# Altium integrated library National Semiconductor Switcher.IntLib: 2226 symbols (part 30 of 59)
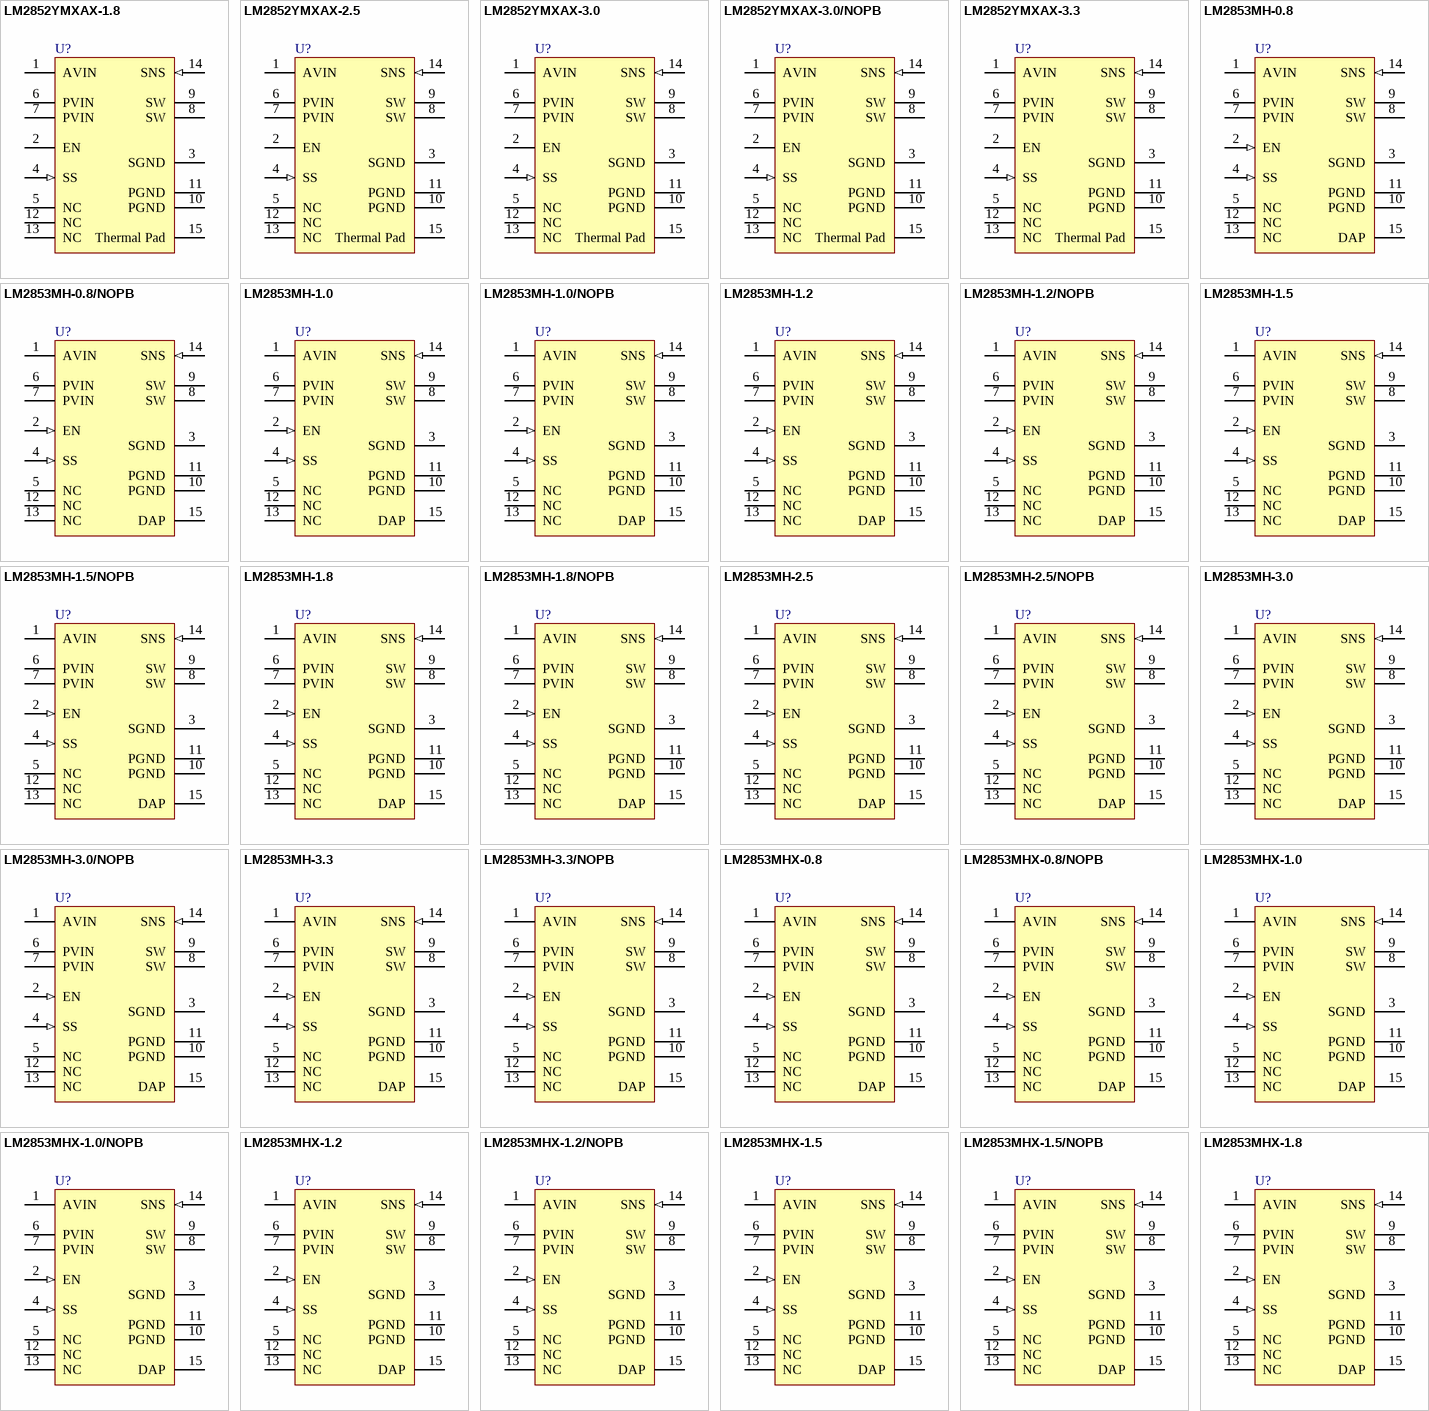
[diagram p98: symbols LM2852YMXAX-1.8 to LM2853MHX-1.8]

## LM2853MHX-0.8/NOPB
designator U?
3A 550 kHz Synchronous SIMPLE SWITCHER® Buck Regulator, 14-pin TSSOP-EP, Pb-Free; PartNumber: LM2853MHX-0.8/NOPB; Manufacturer: National Semiconductor; PackageTopMarking: NSUZXYTT*LM2853*-0.8; PowerWise: Y; DatasheetVersion: Oct-2006; PackageVersion: revA, Feb-2003; PackageReference: MXA14A; PackageDescription: Molded TSSOP, JEDEC, Exposed Pad, 5.0 x 4.4 x 0.9mm Body, 14 Lead, 0.65mm Pitch; RoHS: Y; PinCount: 14; CompType: Switcher; High-Reliability: Y; Code_JEDEC: MO-153-ABT-1; ComponentLink1Description: Manufacturer URL; ComponentLink1URL: http://www.national.com/; ComponentLink2Description: LM2853 Datasheet; ComponentLink2URL: http://www.national.com/ds/LM/LM2853.pdf; ComponentLink3Description: LM2853 Web Page; ComponentLink3URL: http://www.national.com/pf/LM/LM2853.html; ComponentLink4Description: MXA14A Package Page; ComponentLink4URL: http://www.national.com/packaging/folders/mxa14a.html
footprint MXA14A_N (TSOP, 14-Leads, Body 5x4.4mm, Pitch 0.65mm, Thermal Pad, IPC Medium Density)
footprint MXA14A_L (TSOP, 14-Leads, Body 5x4.4mm, Pitch 0.65mm, Thermal Pad, IPC High Density)
footprint MXA14A_M (TSOP, 14-Leads, Body 5x4.4mm, Pitch 0.65mm, Thermal Pad, IPC Low Density)
pins: 1 AVIN (power), 2 EN (in), 3 SGND (power), 4 SS (in), 5 NC, 6 PVIN (power), 7 PVIN (power), 8 SW (power), 9 SW (power), 10 PGND (power), 11 PGND (power), 12 NC, 13 NC, 14 SNS (in), 15 DAP (power)

## LM2853MHX-1.0
designator U?
3A 550 kHz Synchronous SIMPLE SWITCHER® Buck Regulator, 14-pin TSSOP-EP; PartNumber: LM2853MHX-1.0; Manufacturer: National Semiconductor; PackageTopMarking: NSUZXYTT*LM2853*-1.0; PowerWise: Y; DatasheetVersion: Oct-2006; PackageVersion: revA, Feb-2003; PackageReference: MXA14A; PackageDescription: Molded TSSOP, JEDEC, Exposed Pad, 5.0 x 4.4 x 0.9mm Body, 14 Lead, 0.65mm Pitch; RoHS: N; PinCount: 14; CompType: Switcher; High-Reliability: Y; Code_JEDEC: MO-153-ABT-1; ComponentLink1Description: Manufacturer URL; ComponentLink1URL: http://www.national.com/; ComponentLink2Description: LM2853 Datasheet; ComponentLink2URL: http://www.national.com/ds/LM/LM2853.pdf; ComponentLink3Description: LM2853 Web Page; ComponentLink3URL: http://www.national.com/pf/LM/LM2853.html; ComponentLink4Description: MXA14A Package Page; ComponentLink4URL: http://www.national.com/packaging/folders/mxa14a.html
footprint MXA14A_N (TSOP, 14-Leads, Body 5x4.4mm, Pitch 0.65mm, Thermal Pad, IPC Medium Density)
footprint MXA14A_L (TSOP, 14-Leads, Body 5x4.4mm, Pitch 0.65mm, Thermal Pad, IPC High Density)
footprint MXA14A_M (TSOP, 14-Leads, Body 5x4.4mm, Pitch 0.65mm, Thermal Pad, IPC Low Density)
pins: 1 AVIN (power), 2 EN (in), 3 SGND (power), 4 SS (in), 5 NC, 6 PVIN (power), 7 PVIN (power), 8 SW (power), 9 SW (power), 10 PGND (power), 11 PGND (power), 12 NC, 13 NC, 14 SNS (in), 15 DAP (power)

## LM2853MHX-1.0/NOPB
designator U?
3A 550 kHz Synchronous SIMPLE SWITCHER® Buck Regulator, 14-pin TSSOP-EP, Pb-Free; PartNumber: LM2853MHX-1.0/NOPB; Manufacturer: National Semiconductor; PackageTopMarking: NSUZXYTT*LM2853*-1.0; PowerWise: Y; DatasheetVersion: Oct-2006; PackageVersion: revA, Feb-2003; PackageReference: MXA14A; PackageDescription: Molded TSSOP, JEDEC, Exposed Pad, 5.0 x 4.4 x 0.9mm Body, 14 Lead, 0.65mm Pitch; RoHS: Y; PinCount: 14; CompType: Switcher; High-Reliability: Y; Code_JEDEC: MO-153-ABT-1; ComponentLink1Description: Manufacturer URL; ComponentLink1URL: http://www.national.com/; ComponentLink2Description: LM2853 Datasheet; ComponentLink2URL: http://www.national.com/ds/LM/LM2853.pdf; ComponentLink3Description: LM2853 Web Page; ComponentLink3URL: http://www.national.com/pf/LM/LM2853.html; ComponentLink4Description: MXA14A Package Page; ComponentLink4URL: http://www.national.com/packaging/folders/mxa14a.html
footprint MXA14A_N (TSOP, 14-Leads, Body 5x4.4mm, Pitch 0.65mm, Thermal Pad, IPC Medium Density)
footprint MXA14A_L (TSOP, 14-Leads, Body 5x4.4mm, Pitch 0.65mm, Thermal Pad, IPC High Density)
footprint MXA14A_M (TSOP, 14-Leads, Body 5x4.4mm, Pitch 0.65mm, Thermal Pad, IPC Low Density)
pins: 1 AVIN (power), 2 EN (in), 3 SGND (power), 4 SS (in), 5 NC, 6 PVIN (power), 7 PVIN (power), 8 SW (power), 9 SW (power), 10 PGND (power), 11 PGND (power), 12 NC, 13 NC, 14 SNS (in), 15 DAP (power)

## LM2853MHX-1.2
designator U?
3A 550 kHz Synchronous SIMPLE SWITCHER® Buck Regulator, 14-pin TSSOP-EP; PartNumber: LM2853MHX-1.2; Manufacturer: National Semiconductor; PackageTopMarking: NSUZXYTT*LM2853*-1.2; PowerWise: Y; DatasheetVersion: Oct-2006; PackageVersion: revA, Feb-2003; PackageReference: MXA14A; PackageDescription: Molded TSSOP, JEDEC, Exposed Pad, 5.0 x 4.4 x 0.9mm Body, 14 Lead, 0.65mm Pitch; RoHS: N; PinCount: 14; CompType: Switcher; High-Reliability: Y; Code_JEDEC: MO-153-ABT-1; ComponentLink1Description: Manufacturer URL; ComponentLink1URL: http://www.national.com/; ComponentLink2Description: LM2853 Datasheet; ComponentLink2URL: http://www.national.com/ds/LM/LM2853.pdf; ComponentLink3Description: LM2853 Web Page; ComponentLink3URL: http://www.national.com/pf/LM/LM2853.html; ComponentLink4Description: MXA14A Package Page; ComponentLink4URL: http://www.national.com/packaging/folders/mxa14a.html
footprint MXA14A_N (TSOP, 14-Leads, Body 5x4.4mm, Pitch 0.65mm, Thermal Pad, IPC Medium Density)
footprint MXA14A_L (TSOP, 14-Leads, Body 5x4.4mm, Pitch 0.65mm, Thermal Pad, IPC High Density)
footprint MXA14A_M (TSOP, 14-Leads, Body 5x4.4mm, Pitch 0.65mm, Thermal Pad, IPC Low Density)
pins: 1 AVIN (power), 2 EN (in), 3 SGND (power), 4 SS (in), 5 NC, 6 PVIN (power), 7 PVIN (power), 8 SW (power), 9 SW (power), 10 PGND (power), 11 PGND (power), 12 NC, 13 NC, 14 SNS (in), 15 DAP (power)

## LM2853MHX-1.2/NOPB
designator U?
3A 550 kHz Synchronous SIMPLE SWITCHER® Buck Regulator, 14-pin TSSOP-EP, Pb-Free; PartNumber: LM2853MHX-1.2/NOPB; Manufacturer: National Semiconductor; PackageTopMarking: NSUZXYTT*LM2853*-1.2; PowerWise: Y; DatasheetVersion: Oct-2006; PackageVersion: revA, Feb-2003; PackageReference: MXA14A; PackageDescription: Molded TSSOP, JEDEC, Exposed Pad, 5.0 x 4.4 x 0.9mm Body, 14 Lead, 0.65mm Pitch; RoHS: Y; PinCount: 14; CompType: Switcher; High-Reliability: Y; Code_JEDEC: MO-153-ABT-1; ComponentLink1Description: Manufacturer URL; ComponentLink1URL: http://www.national.com/; ComponentLink2Description: LM2853 Datasheet; ComponentLink2URL: http://www.national.com/ds/LM/LM2853.pdf; ComponentLink3Description: LM2853 Web Page; ComponentLink3URL: http://www.national.com/pf/LM/LM2853.html; ComponentLink4Description: MXA14A Package Page; ComponentLink4URL: http://www.national.com/packaging/folders/mxa14a.html
footprint MXA14A_N (TSOP, 14-Leads, Body 5x4.4mm, Pitch 0.65mm, Thermal Pad, IPC Medium Density)
footprint MXA14A_L (TSOP, 14-Leads, Body 5x4.4mm, Pitch 0.65mm, Thermal Pad, IPC High Density)
footprint MXA14A_M (TSOP, 14-Leads, Body 5x4.4mm, Pitch 0.65mm, Thermal Pad, IPC Low Density)
pins: 1 AVIN (power), 2 EN (in), 3 SGND (power), 4 SS (in), 5 NC, 6 PVIN (power), 7 PVIN (power), 8 SW (power), 9 SW (power), 10 PGND (power), 11 PGND (power), 12 NC, 13 NC, 14 SNS (in), 15 DAP (power)

## LM2853MHX-1.5
designator U?
3A 550 kHz Synchronous SIMPLE SWITCHER® Buck Regulator, 14-pin TSSOP-EP; PartNumber: LM2853MHX-1.5; Manufacturer: National Semiconductor; PackageTopMarking: NSUZXYTT*LM2853*-1.5; PowerWise: Y; DatasheetVersion: Oct-2006; PackageVersion: revA, Feb-2003; PackageReference: MXA14A; PackageDescription: Molded TSSOP, JEDEC, Exposed Pad, 5.0 x 4.4 x 0.9mm Body, 14 Lead, 0.65mm Pitch; RoHS: N; PinCount: 14; CompType: Switcher; High-Reliability: Y; Code_JEDEC: MO-153-ABT-1; ComponentLink1Description: Manufacturer URL; ComponentLink1URL: http://www.national.com/; ComponentLink2Description: LM2853 Datasheet; ComponentLink2URL: http://www.national.com/ds/LM/LM2853.pdf; ComponentLink3Description: LM2853 Web Page; ComponentLink3URL: http://www.national.com/pf/LM/LM2853.html; ComponentLink4Description: MXA14A Package Page; ComponentLink4URL: http://www.national.com/packaging/folders/mxa14a.html
footprint MXA14A_N (TSOP, 14-Leads, Body 5x4.4mm, Pitch 0.65mm, Thermal Pad, IPC Medium Density)
footprint MXA14A_L (TSOP, 14-Leads, Body 5x4.4mm, Pitch 0.65mm, Thermal Pad, IPC High Density)
footprint MXA14A_M (TSOP, 14-Leads, Body 5x4.4mm, Pitch 0.65mm, Thermal Pad, IPC Low Density)
pins: 1 AVIN (power), 2 EN (in), 3 SGND (power), 4 SS (in), 5 NC, 6 PVIN (power), 7 PVIN (power), 8 SW (power), 9 SW (power), 10 PGND (power), 11 PGND (power), 12 NC, 13 NC, 14 SNS (in), 15 DAP (power)

## LM2853MHX-1.5/NOPB
designator U?
3A 550 kHz Synchronous SIMPLE SWITCHER® Buck Regulator, 14-pin TSSOP-EP, Pb-Free; PartNumber: LM2853MHX-1.5/NOPB; Manufacturer: National Semiconductor; PackageTopMarking: NSUZXYTT*LM2853*-1.5; PowerWise: Y; DatasheetVersion: Oct-2006; PackageVersion: revA, Feb-2003; PackageReference: MXA14A; PackageDescription: Molded TSSOP, JEDEC, Exposed Pad, 5.0 x 4.4 x 0.9mm Body, 14 Lead, 0.65mm Pitch; RoHS: Y; PinCount: 14; CompType: Switcher; High-Reliability: Y; Code_JEDEC: MO-153-ABT-1; ComponentLink1Description: Manufacturer URL; ComponentLink1URL: http://www.national.com/; ComponentLink2Description: LM2853 Datasheet; ComponentLink2URL: http://www.national.com/ds/LM/LM2853.pdf; ComponentLink3Description: LM2853 Web Page; ComponentLink3URL: http://www.national.com/pf/LM/LM2853.html; ComponentLink4Description: MXA14A Package Page; ComponentLink4URL: http://www.national.com/packaging/folders/mxa14a.html
footprint MXA14A_N (TSOP, 14-Leads, Body 5x4.4mm, Pitch 0.65mm, Thermal Pad, IPC Medium Density)
footprint MXA14A_L (TSOP, 14-Leads, Body 5x4.4mm, Pitch 0.65mm, Thermal Pad, IPC High Density)
footprint MXA14A_M (TSOP, 14-Leads, Body 5x4.4mm, Pitch 0.65mm, Thermal Pad, IPC Low Density)
pins: 1 AVIN (power), 2 EN (in), 3 SGND (power), 4 SS (in), 5 NC, 6 PVIN (power), 7 PVIN (power), 8 SW (power), 9 SW (power), 10 PGND (power), 11 PGND (power), 12 NC, 13 NC, 14 SNS (in), 15 DAP (power)

## LM2853MHX-1.8
designator U?
3A 550 kHz Synchronous SIMPLE SWITCHER® Buck Regulator, 14-pin TSSOP-EP; PartNumber: LM2853MHX-1.8; Manufacturer: National Semiconductor; PackageTopMarking: NSUZXYTT*LM2853*-1.8; PowerWise: Y; DatasheetVersion: Oct-2006; PackageVersion: revA, Feb-2003; PackageReference: MXA14A; PackageDescription: Molded TSSOP, JEDEC, Exposed Pad, 5.0 x 4.4 x 0.9mm Body, 14 Lead, 0.65mm Pitch; RoHS: N; PinCount: 14; CompType: Switcher; High-Reliability: Y; Code_JEDEC: MO-153-ABT-1; ComponentLink1Description: Manufacturer URL; ComponentLink1URL: http://www.national.com/; ComponentLink2Description: LM2853 Datasheet; ComponentLink2URL: http://www.national.com/ds/LM/LM2853.pdf; ComponentLink3Description: LM2853 Web Page; ComponentLink3URL: http://www.national.com/pf/LM/LM2853.html; ComponentLink4Description: MXA14A Package Page; ComponentLink4URL: http://www.national.com/packaging/folders/mxa14a.html
footprint MXA14A_N (TSOP, 14-Leads, Body 5x4.4mm, Pitch 0.65mm, Thermal Pad, IPC Medium Density)
footprint MXA14A_L (TSOP, 14-Leads, Body 5x4.4mm, Pitch 0.65mm, Thermal Pad, IPC High Density)
footprint MXA14A_M (TSOP, 14-Leads, Body 5x4.4mm, Pitch 0.65mm, Thermal Pad, IPC Low Density)
pins: 1 AVIN (power), 2 EN (in), 3 SGND (power), 4 SS (in), 5 NC, 6 PVIN (power), 7 PVIN (power), 8 SW (power), 9 SW (power), 10 PGND (power), 11 PGND (power), 12 NC, 13 NC, 14 SNS (in), 15 DAP (power)

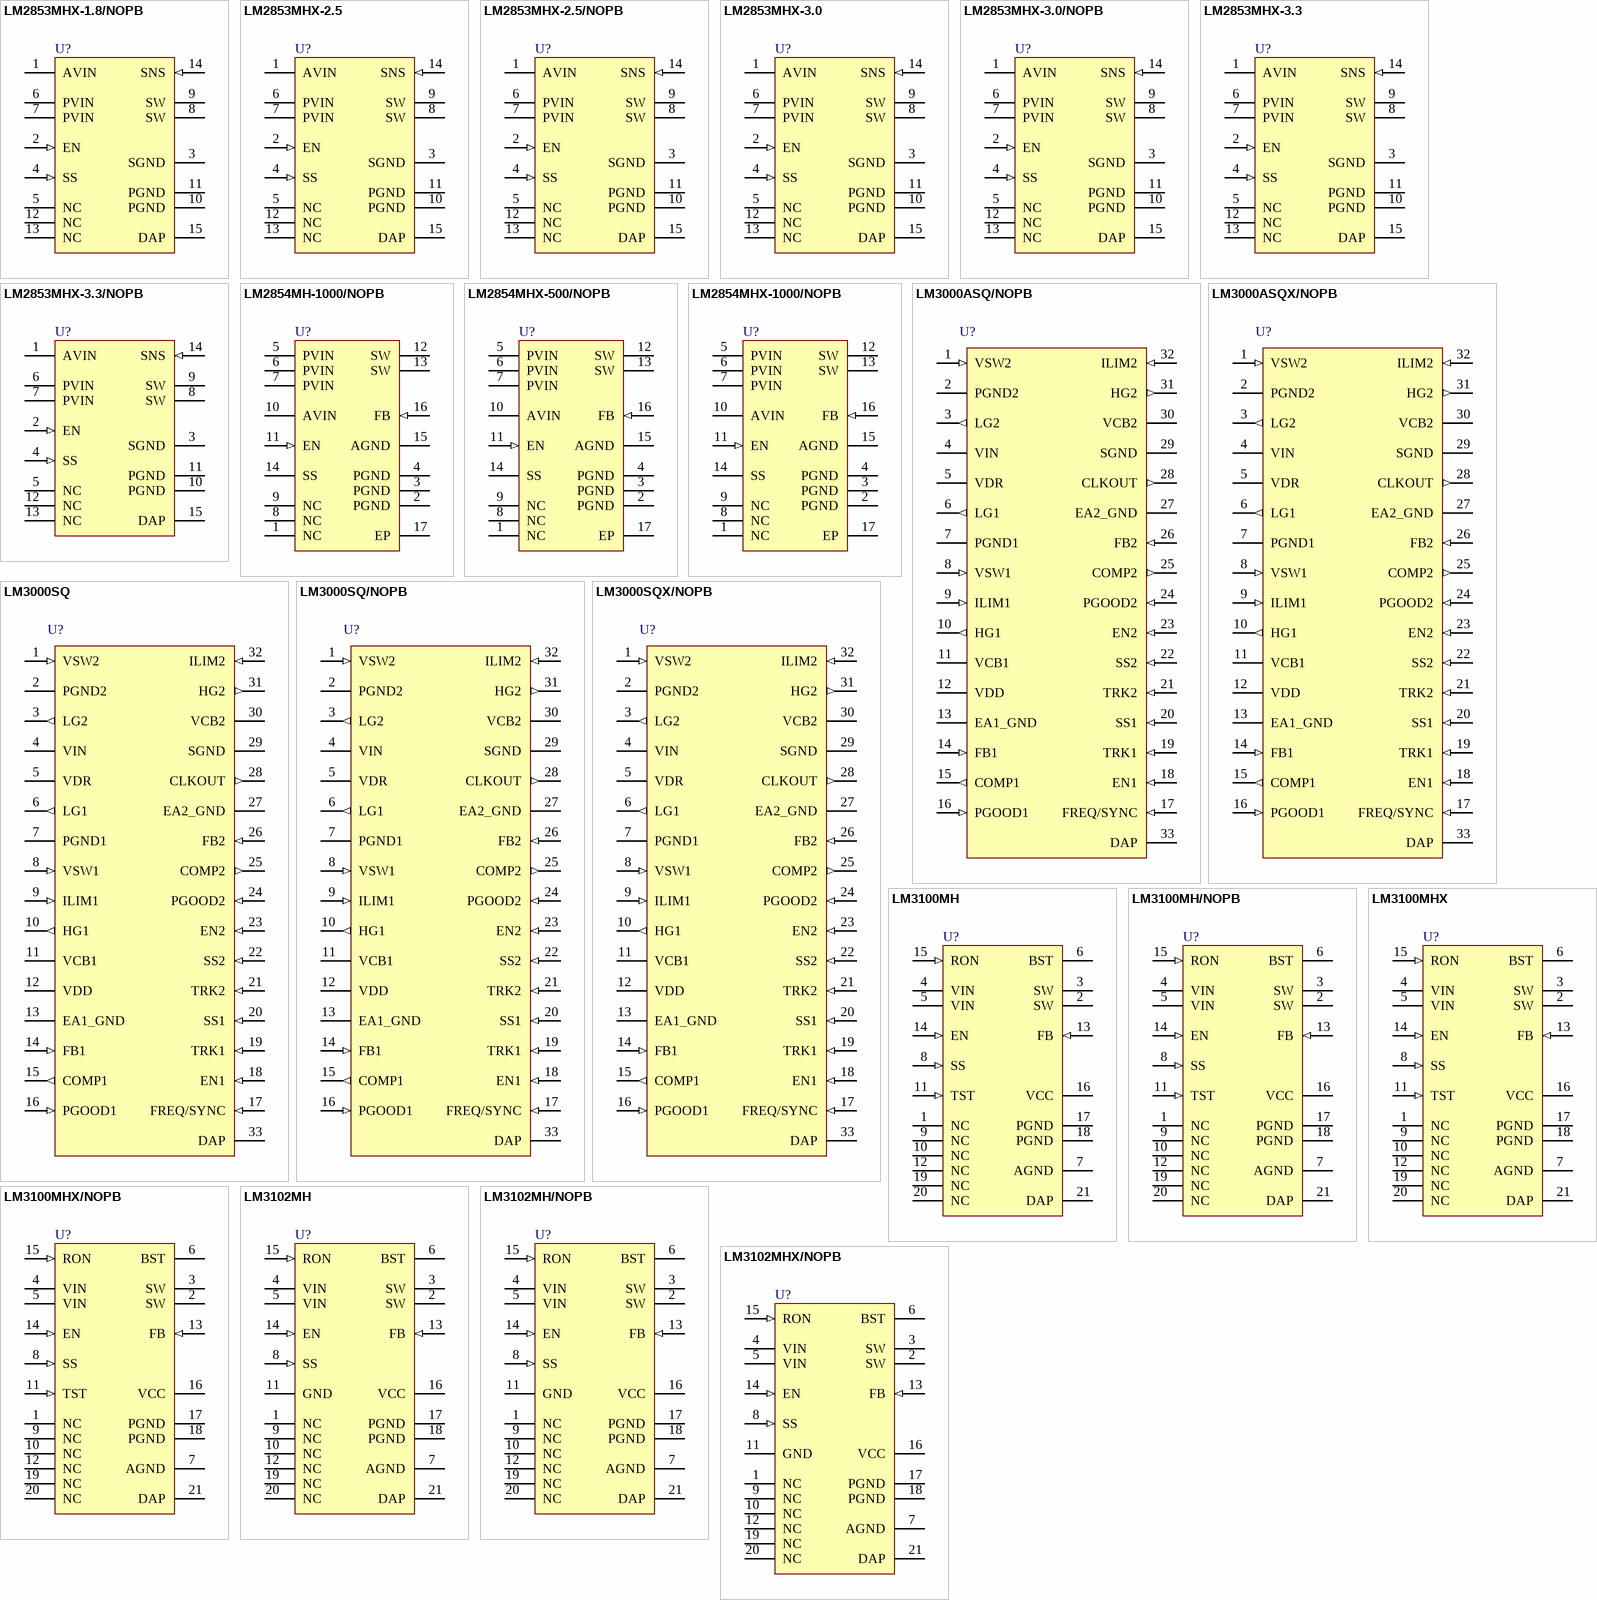
[diagram p32: symbols LM2853MHX-1.8/NOPB to LM3102MHX/NOPB]

## LM2853MHX-1.8/NOPB
designator U?
3A 550 kHz Synchronous SIMPLE SWITCHER® Buck Regulator, 14-pin TSSOP-EP, Pb-Free; PartNumber: LM2853MHX-1.8/NOPB; Manufacturer: National Semiconductor; PackageTopMarking: NSUZXYTT*LM2853*-1.8; PowerWise: Y; DatasheetVersion: Oct-2006; PackageVersion: revA, Feb-2003; PackageReference: MXA14A; PackageDescription: Molded TSSOP, JEDEC, Exposed Pad, 5.0 x 4.4 x 0.9mm Body, 14 Lead, 0.65mm Pitch; RoHS: Y; PinCount: 14; CompType: Switcher; High-Reliability: Y; Code_JEDEC: MO-153-ABT-1; ComponentLink1Description: Manufacturer URL; ComponentLink1URL: http://www.national.com/; ComponentLink2Description: LM2853 Datasheet; ComponentLink2URL: http://www.national.com/ds/LM/LM2853.pdf; ComponentLink3Description: LM2853 Web Page; ComponentLink3URL: http://www.national.com/pf/LM/LM2853.html; ComponentLink4Description: MXA14A Package Page; ComponentLink4URL: http://www.national.com/packaging/folders/mxa14a.html
footprint MXA14A_N (TSOP, 14-Leads, Body 5x4.4mm, Pitch 0.65mm, Thermal Pad, IPC Medium Density)
footprint MXA14A_L (TSOP, 14-Leads, Body 5x4.4mm, Pitch 0.65mm, Thermal Pad, IPC High Density)
footprint MXA14A_M (TSOP, 14-Leads, Body 5x4.4mm, Pitch 0.65mm, Thermal Pad, IPC Low Density)
pins: 1 AVIN (power), 2 EN (in), 3 SGND (power), 4 SS (in), 5 NC, 6 PVIN (power), 7 PVIN (power), 8 SW (power), 9 SW (power), 10 PGND (power), 11 PGND (power), 12 NC, 13 NC, 14 SNS (in), 15 DAP (power)

## LM2853MHX-2.5
designator U?
3A 550 kHz Synchronous SIMPLE SWITCHER® Buck Regulator, 14-pin TSSOP-EP; PartNumber: LM2853MHX-2.5; Manufacturer: National Semiconductor; PackageTopMarking: NSUZXYTT*LM2853*-2.5; PowerWise: Y; DatasheetVersion: Oct-2006; PackageVersion: revA, Feb-2003; PackageReference: MXA14A; PackageDescription: Molded TSSOP, JEDEC, Exposed Pad, 5.0 x 4.4 x 0.9mm Body, 14 Lead, 0.65mm Pitch; RoHS: N; PinCount: 14; CompType: Switcher; High-Reliability: Y; Code_JEDEC: MO-153-ABT-1; ComponentLink1Description: Manufacturer URL; ComponentLink1URL: http://www.national.com/; ComponentLink2Description: LM2853 Datasheet; ComponentLink2URL: http://www.national.com/ds/LM/LM2853.pdf; ComponentLink3Description: LM2853 Web Page; ComponentLink3URL: http://www.national.com/pf/LM/LM2853.html; ComponentLink4Description: MXA14A Package Page; ComponentLink4URL: http://www.national.com/packaging/folders/mxa14a.html
footprint MXA14A_N (TSOP, 14-Leads, Body 5x4.4mm, Pitch 0.65mm, Thermal Pad, IPC Medium Density)
footprint MXA14A_L (TSOP, 14-Leads, Body 5x4.4mm, Pitch 0.65mm, Thermal Pad, IPC High Density)
footprint MXA14A_M (TSOP, 14-Leads, Body 5x4.4mm, Pitch 0.65mm, Thermal Pad, IPC Low Density)
pins: 1 AVIN (power), 2 EN (in), 3 SGND (power), 4 SS (in), 5 NC, 6 PVIN (power), 7 PVIN (power), 8 SW (power), 9 SW (power), 10 PGND (power), 11 PGND (power), 12 NC, 13 NC, 14 SNS (in), 15 DAP (power)

## LM2853MHX-2.5/NOPB
designator U?
3A 550 kHz Synchronous SIMPLE SWITCHER® Buck Regulator, 14-pin TSSOP-EP, Pb-Free; PartNumber: LM2853MHX-2.5/NOPB; Manufacturer: National Semiconductor; PackageTopMarking: NSUZXYTT*LM2853*-2.5; PowerWise: Y; DatasheetVersion: Oct-2006; PackageVersion: revA, Feb-2003; PackageReference: MXA14A; PackageDescription: Molded TSSOP, JEDEC, Exposed Pad, 5.0 x 4.4 x 0.9mm Body, 14 Lead, 0.65mm Pitch; RoHS: Y; PinCount: 14; CompType: Switcher; High-Reliability: Y; Code_JEDEC: MO-153-ABT-1; ComponentLink1Description: Manufacturer URL; ComponentLink1URL: http://www.national.com/; ComponentLink2Description: LM2853 Datasheet; ComponentLink2URL: http://www.national.com/ds/LM/LM2853.pdf; ComponentLink3Description: LM2853 Web Page; ComponentLink3URL: http://www.national.com/pf/LM/LM2853.html; ComponentLink4Description: MXA14A Package Page; ComponentLink4URL: http://www.national.com/packaging/folders/mxa14a.html
footprint MXA14A_N (TSOP, 14-Leads, Body 5x4.4mm, Pitch 0.65mm, Thermal Pad, IPC Medium Density)
footprint MXA14A_L (TSOP, 14-Leads, Body 5x4.4mm, Pitch 0.65mm, Thermal Pad, IPC High Density)
footprint MXA14A_M (TSOP, 14-Leads, Body 5x4.4mm, Pitch 0.65mm, Thermal Pad, IPC Low Density)
pins: 1 AVIN (power), 2 EN (in), 3 SGND (power), 4 SS (in), 5 NC, 6 PVIN (power), 7 PVIN (power), 8 SW (power), 9 SW (power), 10 PGND (power), 11 PGND (power), 12 NC, 13 NC, 14 SNS (in), 15 DAP (power)

## LM2853MHX-3.0
designator U?
3A 550 kHz Synchronous SIMPLE SWITCHER® Buck Regulator, 14-pin TSSOP-EP; PartNumber: LM2853MHX-3.0; Manufacturer: National Semiconductor; PackageTopMarking: NSUZXYTT*LM2853*-3.0; PowerWise: Y; DatasheetVersion: Oct-2006; PackageVersion: revA, Feb-2003; PackageReference: MXA14A; PackageDescription: Molded TSSOP, JEDEC, Exposed Pad, 5.0 x 4.4 x 0.9mm Body, 14 Lead, 0.65mm Pitch; RoHS: N; PinCount: 14; CompType: Switcher; High-Reliability: Y; Code_JEDEC: MO-153-ABT-1; ComponentLink1Description: Manufacturer URL; ComponentLink1URL: http://www.national.com/; ComponentLink2Description: LM2853 Datasheet; ComponentLink2URL: http://www.national.com/ds/LM/LM2853.pdf; ComponentLink3Description: LM2853 Web Page; ComponentLink3URL: http://www.national.com/pf/LM/LM2853.html; ComponentLink4Description: MXA14A Package Page; ComponentLink4URL: http://www.national.com/packaging/folders/mxa14a.html
footprint MXA14A_N (TSOP, 14-Leads, Body 5x4.4mm, Pitch 0.65mm, Thermal Pad, IPC Medium Density)
footprint MXA14A_L (TSOP, 14-Leads, Body 5x4.4mm, Pitch 0.65mm, Thermal Pad, IPC High Density)
footprint MXA14A_M (TSOP, 14-Leads, Body 5x4.4mm, Pitch 0.65mm, Thermal Pad, IPC Low Density)
pins: 1 AVIN (power), 2 EN (in), 3 SGND (power), 4 SS (in), 5 NC, 6 PVIN (power), 7 PVIN (power), 8 SW (power), 9 SW (power), 10 PGND (power), 11 PGND (power), 12 NC, 13 NC, 14 SNS (in), 15 DAP (power)

## LM2853MHX-3.0/NOPB
designator U?
3A 550 kHz Synchronous SIMPLE SWITCHER® Buck Regulator, 14-pin TSSOP-EP, Pb-Free; PartNumber: LM2853MHX-3.0/NOPB; Manufacturer: National Semiconductor; PackageTopMarking: NSUZXYTT*LM2853*-3.0; PowerWise: Y; DatasheetVersion: Oct-2006; PackageVersion: revA, Feb-2003; PackageReference: MXA14A; PackageDescription: Molded TSSOP, JEDEC, Exposed Pad, 5.0 x 4.4 x 0.9mm Body, 14 Lead, 0.65mm Pitch; RoHS: Y; PinCount: 14; CompType: Switcher; High-Reliability: Y; Code_JEDEC: MO-153-ABT-1; ComponentLink1Description: Manufacturer URL; ComponentLink1URL: http://www.national.com/; ComponentLink2Description: LM2853 Datasheet; ComponentLink2URL: http://www.national.com/ds/LM/LM2853.pdf; ComponentLink3Description: LM2853 Web Page; ComponentLink3URL: http://www.national.com/pf/LM/LM2853.html; ComponentLink4Description: MXA14A Package Page; ComponentLink4URL: http://www.national.com/packaging/folders/mxa14a.html
footprint MXA14A_N (TSOP, 14-Leads, Body 5x4.4mm, Pitch 0.65mm, Thermal Pad, IPC Medium Density)
footprint MXA14A_L (TSOP, 14-Leads, Body 5x4.4mm, Pitch 0.65mm, Thermal Pad, IPC High Density)
footprint MXA14A_M (TSOP, 14-Leads, Body 5x4.4mm, Pitch 0.65mm, Thermal Pad, IPC Low Density)
pins: 1 AVIN (power), 2 EN (in), 3 SGND (power), 4 SS (in), 5 NC, 6 PVIN (power), 7 PVIN (power), 8 SW (power), 9 SW (power), 10 PGND (power), 11 PGND (power), 12 NC, 13 NC, 14 SNS (in), 15 DAP (power)

## LM2853MHX-3.3
designator U?
3A 550 kHz Synchronous SIMPLE SWITCHER® Buck Regulator, 14-pin TSSOP-EP; PartNumber: LM2853MHX-3.3; Manufacturer: National Semiconductor; PackageTopMarking: NSUZXYTT*LM2853*-3.3; PowerWise: Y; DatasheetVersion: Oct-2006; PackageVersion: revA, Feb-2003; PackageReference: MXA14A; PackageDescription: Molded TSSOP, JEDEC, Exposed Pad, 5.0 x 4.4 x 0.9mm Body, 14 Lead, 0.65mm Pitch; RoHS: N; PinCount: 14; CompType: Switcher; High-Reliability: Y; Code_JEDEC: MO-153-ABT-1; ComponentLink1Description: Manufacturer URL; ComponentLink1URL: http://www.national.com/; ComponentLink2Description: LM2853 Datasheet; ComponentLink2URL: http://www.national.com/ds/LM/LM2853.pdf; ComponentLink3Description: LM2853 Web Page; ComponentLink3URL: http://www.national.com/pf/LM/LM2853.html; ComponentLink4Description: MXA14A Package Page; ComponentLink4URL: http://www.national.com/packaging/folders/mxa14a.html
footprint MXA14A_N (TSOP, 14-Leads, Body 5x4.4mm, Pitch 0.65mm, Thermal Pad, IPC Medium Density)
footprint MXA14A_L (TSOP, 14-Leads, Body 5x4.4mm, Pitch 0.65mm, Thermal Pad, IPC High Density)
footprint MXA14A_M (TSOP, 14-Leads, Body 5x4.4mm, Pitch 0.65mm, Thermal Pad, IPC Low Density)
pins: 1 AVIN (power), 2 EN (in), 3 SGND (power), 4 SS (in), 5 NC, 6 PVIN (power), 7 PVIN (power), 8 SW (power), 9 SW (power), 10 PGND (power), 11 PGND (power), 12 NC, 13 NC, 14 SNS (in), 15 DAP (power)

## LM2853MHX-3.3/NOPB
designator U?
3A 550 kHz Synchronous SIMPLE SWITCHER® Buck Regulator, 14-pin TSSOP-EP, Pb-Free; PartNumber: LM2853MHX-3.3/NOPB; Manufacturer: National Semiconductor; PackageTopMarking: NSUZXYTT*LM2853*-3.3; PowerWise: Y; DatasheetVersion: Oct-2006; PackageVersion: revA, Feb-2003; PackageReference: MXA14A; PackageDescription: Molded TSSOP, JEDEC, Exposed Pad, 5.0 x 4.4 x 0.9mm Body, 14 Lead, 0.65mm Pitch; RoHS: Y; PinCount: 14; CompType: Switcher; High-Reliability: Y; Code_JEDEC: MO-153-ABT-1; ComponentLink1Description: Manufacturer URL; ComponentLink1URL: http://www.national.com/; ComponentLink2Description: LM2853 Datasheet; ComponentLink2URL: http://www.national.com/ds/LM/LM2853.pdf; ComponentLink3Description: LM2853 Web Page; ComponentLink3URL: http://www.national.com/pf/LM/LM2853.html; ComponentLink4Description: MXA14A Package Page; ComponentLink4URL: http://www.national.com/packaging/folders/mxa14a.html
footprint MXA14A_N (TSOP, 14-Leads, Body 5x4.4mm, Pitch 0.65mm, Thermal Pad, IPC Medium Density)
footprint MXA14A_L (TSOP, 14-Leads, Body 5x4.4mm, Pitch 0.65mm, Thermal Pad, IPC High Density)
footprint MXA14A_M (TSOP, 14-Leads, Body 5x4.4mm, Pitch 0.65mm, Thermal Pad, IPC Low Density)
pins: 1 AVIN (power), 2 EN (in), 3 SGND (power), 4 SS (in), 5 NC, 6 PVIN (power), 7 PVIN (power), 8 SW (power), 9 SW (power), 10 PGND (power), 11 PGND (power), 12 NC, 13 NC, 14 SNS (in), 15 DAP (power)

## LM2854MH-1000/NOPB
designator U?
4A 500 kHz / 1 MHz Synchronous SIMPLE SWITCHER® Buck Regulator, 16-pin TSSOP-EP, Pb-Free; PartNumber: LM2854MH-1000/NOPB; Manufacturer: National Semiconductor; PackageTopMarking: NSUZXYTT*LM2854*-1000; PowerWise: Y; DatasheetVersion: Apr-2008; PackageVersion: revA, Apr-2003; PackageReference: MXA16A; PackageDescription: Molded TSSOP, Jedec, Exposed Pad, 5.0 x 4.4 x 0.9mm Body,16 Lead, 0.65mm Pitch; RoHS: Y; PinCount: 16; CompType: Switcher; High-Reliability: Y; Code_JEDEC: MO-153-ABT; ComponentLink1Description: Manufacturer URL; ComponentLink1URL: http://www.national.com/; ComponentLink2Description: LM2854 Datasheet; ComponentLink2URL: http://www.national.com/ds/LM/LM2854.pdf; ComponentLink3Description: LM2854 Web Page; ComponentLink3URL: http://www.national.com/pf/LM/LM2854.html; ComponentLink4Description: MXA16A Package Page; ComponentLink4URL: http://www.national.com/packaging/folders/mxa16a.html
footprint MXA16A_N (TSOP, 16-Leads, Body 5x4.4mm, Pitch 0.65mm, Thermal Pad, IPC Medium Density)
footprint MXA16A_L (TSOP, 16-Leads, Body 5x4.4mm, Pitch 0.65mm, Thermal Pad, IPC High Density)
footprint MXA16A_M (TSOP, 16-Leads, Body 5x4.4mm, Pitch 0.65mm, Thermal Pad, IPC Low Density)
pins: 1 NC, 2 PGND (power), 3 PGND (power), 4 PGND (power), 5 PVIN (power), 6 PVIN (power), 7 PVIN (power), 8 NC, 9 NC, 10 AVIN (power), 11 EN (in), 12 SW (power), 13 SW (power), 14 SS, 15 AGND (power), 16 FB (in), 17 EP (power)

## LM2854MHX-500/NOPB
designator U?
4A 500 kHz / 1 MHz Synchronous SIMPLE SWITCHER® Buck Regulator, 16-pin TSSOP-EP, Pb-Free; PartNumber: LM2854MHX-500/NOPB; Manufacturer: National Semiconductor; PackageTopMarking: NSUZXYTT*LM2854*-500; PowerWise: Y; DatasheetVersion: Apr-2008; PackageVersion: revA, Apr-2003; PackageReference: MXA16A; PackageDescription: Molded TSSOP, Jedec, Exposed Pad, 5.0 x 4.4 x 0.9mm Body,16 Lead, 0.65mm Pitch; RoHS: Y; PinCount: 16; CompType: Switcher; High-Reliability: Y; Code_JEDEC: MO-153-ABT; ComponentLink1Description: Manufacturer URL; ComponentLink1URL: http://www.national.com/; ComponentLink2Description: LM2854 Datasheet; ComponentLink2URL: http://www.national.com/ds/LM/LM2854.pdf; ComponentLink3Description: LM2854 Web Page; ComponentLink3URL: http://www.national.com/pf/LM/LM2854.html; ComponentLink4Description: MXA16A Package Page; ComponentLink4URL: http://www.national.com/packaging/folders/mxa16a.html
footprint MXA16A_N (TSOP, 16-Leads, Body 5x4.4mm, Pitch 0.65mm, Thermal Pad, IPC Medium Density)
footprint MXA16A_L (TSOP, 16-Leads, Body 5x4.4mm, Pitch 0.65mm, Thermal Pad, IPC High Density)
footprint MXA16A_M (TSOP, 16-Leads, Body 5x4.4mm, Pitch 0.65mm, Thermal Pad, IPC Low Density)
pins: 1 NC, 2 PGND (power), 3 PGND (power), 4 PGND (power), 5 PVIN (power), 6 PVIN (power), 7 PVIN (power), 8 NC, 9 NC, 10 AVIN (power), 11 EN (in), 12 SW (power), 13 SW (power), 14 SS, 15 AGND (power), 16 FB (in), 17 EP (power)

## LM2854MHX-1000/NOPB
designator U?
4A 500 kHz / 1 MHz Synchronous SIMPLE SWITCHER® Buck Regulator, 16-pin TSSOP-EP, Pb-Free; PartNumber: LM2854MHX-1000/NOPB; Manufacturer: National Semiconductor; PackageTopMarking: NSUZXYTT*LM2854*-1000; PowerWise: Y; DatasheetVersion: Apr-2008; PackageVersion: revA, Apr-2003; PackageReference: MXA16A; PackageDescription: Molded TSSOP, Jedec, Exposed Pad, 5.0 x 4.4 x 0.9mm Body,16 Lead, 0.65mm Pitch; RoHS: Y; PinCount: 16; CompType: Switcher; High-Reliability: Y; Code_JEDEC: MO-153-ABT; ComponentLink1Description: Manufacturer URL; ComponentLink1URL: http://www.national.com/; ComponentLink2Description: LM2854 Datasheet; ComponentLink2URL: http://www.national.com/ds/LM/LM2854.pdf; ComponentLink3Description: LM2854 Web Page; ComponentLink3URL: http://www.national.com/pf/LM/LM2854.html; ComponentLink4Description: MXA16A Package Page; ComponentLink4URL: http://www.national.com/packaging/folders/mxa16a.html
footprint MXA16A_N (TSOP, 16-Leads, Body 5x4.4mm, Pitch 0.65mm, Thermal Pad, IPC Medium Density)
footprint MXA16A_L (TSOP, 16-Leads, Body 5x4.4mm, Pitch 0.65mm, Thermal Pad, IPC High Density)
footprint MXA16A_M (TSOP, 16-Leads, Body 5x4.4mm, Pitch 0.65mm, Thermal Pad, IPC Low Density)
pins: 1 NC, 2 PGND (power), 3 PGND (power), 4 PGND (power), 5 PVIN (power), 6 PVIN (power), 7 PVIN (power), 8 NC, 9 NC, 10 AVIN (power), 11 EN (in), 12 SW (power), 13 SW (power), 14 SS, 15 AGND (power), 16 FB (in), 17 EP (power)

## LM3000ASQ/NOPB
designator U?
Dual Synchronous Emulated Current-Mode Controller, 32 pin LLP, Pb-Free; PartNumber: LM3000ASQ/NOPB; Manufacturer: National Semiconductor; PackageTopMarking: NS*UZXYTT*3000A; PowerWise: Y; CompType: Switcher; DatasheetVersion: Jul-2009; PackageVersion: revB, Oct-2009; PackageReference: SQA32A; PackageDescription: LLP, Quad, 5 x 5 x 0.8mm, 32 Lead, 0.5mm Pitch, No Pullback 3.1 x 3.1 Exposed Pad; RoHS: Y; PinCount: 32; High-Reliability: Y; ComponentLink1Description: Manufacturer URL; ComponentLink1URL: http://www.national.com/; ComponentLink2Description: LM3000 Datasheet; ComponentLink2URL: http://www.national.com/ds/LM/LM3000.pdf; ComponentLink3Description: LM3000 Web Page; ComponentLink3URL: http://www.national.com/pf/LM/LM3000.html; ComponentLink4Description: SQA32A Package Page; ComponentLink4URL: http://www.national.com/packaging/folders/sqa32a.html
footprint SQA32A (QFN, 32-Leads, Body 5x5mm, Pitch 0.5mm, Thermal Pad 3.2x3.2mm, NSC Recommended)
pins: 1 VSW2 (in) "Switch node sense for channel 2", 2 PGND2 (power) "Power ground for channel 2 low-side drivers", 3 LG2 (out) "Channel 2 low-side gate drive for external MOSFET", 4 VIN (power) "Chip supply voltage, input to the VDD and VDR regulators(3.3V to 18.5V)", 5 VDR (power) "Supply for low-side gate drivers", 6 LG1 (out) "Channel 1 low-side gate drive for external MOSFET", 7 PGND1 (power) "Power ground for channel 1 low-side drivers", 8 VSW1 (in) "Switch node sense for channel 1", 9 ILIM1 (in) "Current limit setting input for channel 1", 10 HG1 (out) "Channel 1 high-side gate drive for external MOSFET", 11 VCB1 (power) "Boost voltage for channel 1 high-side driver", 12 VDD (power) "Supply for control circuitry", 13 EA1_GND (power) "Error amplifier ground sense for channel 1", 14 FB1 (in) "Error amplifier input for channel 1", 15 COMP1 (out) "Error amplifier output for channel 1", 16 PGOOD1 (in) "Power good signal for channel 1 under-voltage and over-voltage", 17 FREQ/SYNC (in) "Frequency set / synchronization input for internal PLL", 18 EN1 (in) "Channel 1 enable input. Used to set the emulated current slope for channel 1", 19 TRK1 (in) "Channel 1 track input", 20 SS1 (in) "Channel 1 soft-start", 21 TRK2 (in) "Channel 2 track input", 22 SS2 (in) "Channel 2 soft-start", 23 EN2 (in) "Channel 2 enable input. Used to set the emulated current slope for channel 2", 24 PGOOD2 (in) "Power good signal for channel 2 under-voltage and over-voltage", 25 COMP2 (out) "Error amplifier output for channel 2", 26 FB2 (in) "Error amplifier input for channel 2", 27 EA2_GND (power) "Error amplifier ground sense for channel 2", 28 CLKOUT (out) "Output clockCLKOUT is shifted 90 degrees from SYNC input", 29 SGND (power) "Local signal ground", 30 VCB2 (power) "Boost voltage for channel 2 high-side driver", 31 HG2 (out) "Channel 2 high-side gate drive for external MOSFET", 32 ILIM2 (in) "Current limit setting input for channel 2", 33 DAP (power) "Exposed die attach pad. Connect the DAP directly to SGND"

## LM3000ASQX/NOPB
designator U?
Dual Synchronous Emulated Current-Mode Controller, 32 pin LLP, Pb-Free; PartNumber: LM3000ASQX/NOPB; Manufacturer: National Semiconductor; PackageTopMarking: NS*UZXYTT*3000A; PowerWise: Y; CompType: Switcher; DatasheetVersion: Jul-2009; PackageVersion: revB, Oct-2009; PackageReference: SQA32A; PackageDescription: LLP, Quad, 5 x 5 x 0.8mm, 32 Lead, 0.5mm Pitch, No Pullback 3.1 x 3.1 Exposed Pad; RoHS: Y; PinCount: 32; High-Reliability: Y; ComponentLink1Description: Manufacturer URL; ComponentLink1URL: http://www.national.com/; ComponentLink2Description: LM3000 Datasheet; ComponentLink2URL: http://www.national.com/ds/LM/LM3000.pdf; ComponentLink3Description: LM3000 Web Page; ComponentLink3URL: http://www.national.com/pf/LM/LM3000.html; ComponentLink4Description: SQA32A Package Page; ComponentLink4URL: http://www.national.com/packaging/folders/sqa32a.html
footprint SQA32A (QFN, 32-Leads, Body 5x5mm, Pitch 0.5mm, Thermal Pad 3.2x3.2mm, NSC Recommended)
pins: 1 VSW2 (in) "Switch node sense for channel 2", 2 PGND2 (power) "Power ground for channel 2 low-side drivers", 3 LG2 (out) "Channel 2 low-side gate drive for external MOSFET", 4 VIN (power) "Chip supply voltage, input to the VDD and VDR regulators(3.3V to 18.5V)", 5 VDR (power) "Supply for low-side gate drivers", 6 LG1 (out) "Channel 1 low-side gate drive for external MOSFET", 7 PGND1 (power) "Power ground for channel 1 low-side drivers", 8 VSW1 (in) "Switch node sense for channel 1", 9 ILIM1 (in) "Current limit setting input for channel 1", 10 HG1 (out) "Channel 1 high-side gate drive for external MOSFET", 11 VCB1 (power) "Boost voltage for channel 1 high-side driver", 12 VDD (power) "Supply for control circuitry", 13 EA1_GND (power) "Error amplifier ground sense for channel 1", 14 FB1 (in) "Error amplifier input for channel 1", 15 COMP1 (out) "Error amplifier output for channel 1", 16 PGOOD1 (in) "Power good signal for channel 1 under-voltage and over-voltage", 17 FREQ/SYNC (in) "Frequency set / synchronization input for internal PLL", 18 EN1 (in) "Channel 1 enable input. Used to set the emulated current slope for channel 1", 19 TRK1 (in) "Channel 1 track input", 20 SS1 (in) "Channel 1 soft-start", 21 TRK2 (in) "Channel 2 track input", 22 SS2 (in) "Channel 2 soft-start", 23 EN2 (in) "Channel 2 enable input. Used to set the emulated current slope for channel 2", 24 PGOOD2 (in) "Power good signal for channel 2 under-voltage and over-voltage", 25 COMP2 (out) "Error amplifier output for channel 2", 26 FB2 (in) "Error amplifier input for channel 2", 27 EA2_GND (power) "Error amplifier ground sense for channel 2", 28 CLKOUT (out) "Output clockCLKOUT is shifted 90 degrees from SYNC input", 29 SGND (power) "Local signal ground", 30 VCB2 (power) "Boost voltage for channel 2 high-side driver", 31 HG2 (out) "Channel 2 high-side gate drive for external MOSFET", 32 ILIM2 (in) "Current limit setting input for channel 2", 33 DAP (power) "Exposed die attach pad. Connect the DAP directly to SGND"

## LM3000SQ
designator U?
Dual Synchronous Emulated Current-Mode Controller, 32-pin LLP; PartNumber: LM3000SQ; Manufacturer: National Semiconductor; PackageTopMarking: NS*UZXYTT*3000; PowerWise: Y; CompType: Switcher; DatasheetVersion: Jul-2009; PackageVersion: revB, Oct-2009; PackageReference: SQA32A; PackageDescription: LLP, Quad, 5 x 5 x 0.8mm, 32 Lead, 0.5mm Pitch, No Pullback 3.1 x 3.1 Exposed Pad; RoHS: Y; PinCount: 32; High-Reliability: Y; ComponentLink1Description: Manufacturer URL; ComponentLink1URL: http://www.national.com/; ComponentLink2Description: LM3000 Datasheet; ComponentLink2URL: http://www.national.com/ds/LM/LM3000.pdf; ComponentLink3Description: LM3000 Web Page; ComponentLink3URL: http://www.national.com/pf/LM/LM3000.html; ComponentLink4Description: SQA32A Package Page; ComponentLink4URL: http://www.national.com/packaging/folders/sqa32a.html
footprint SQA32A (QFN, 32-Leads, Body 5x5mm, Pitch 0.5mm, Thermal Pad 3.2x3.2mm, NSC Recommended)
pins: 1 VSW2 (in) "Switch node sense for channel 2", 2 PGND2 (power) "Power ground for channel 2 low-side drivers", 3 LG2 (out) "Channel 2 low-side gate drive for external MOSFET", 4 VIN (power) "Chip supply voltage, input to the VDD and VDR regulators(3.3V to 18.5V)", 5 VDR (power) "Supply for low-side gate drivers", 6 LG1 (out) "Channel 1 low-side gate drive for external MOSFET", 7 PGND1 (power) "Power ground for channel 1 low-side drivers", 8 VSW1 (in) "Switch node sense for channel 1", 9 ILIM1 (in) "Current limit setting input for channel 1", 10 HG1 (out) "Channel 1 high-side gate drive for external MOSFET", 11 VCB1 (power) "Boost voltage for channel 1 high-side driver", 12 VDD (power) "Supply for control circuitry", 13 EA1_GND (power) "Error amplifier ground sense for channel 1", 14 FB1 (in) "Error amplifier input for channel 1", 15 COMP1 (out) "Error amplifier output for channel 1", 16 PGOOD1 (in) "Power good signal for channel 1 under-voltage and over-voltage", 17 FREQ/SYNC (in) "Frequency set / synchronization input for internal PLL", 18 EN1 (in) "Channel 1 enable input. Used to set the emulated current slope for channel 1", 19 TRK1 (in) "Channel 1 track input", 20 SS1 (in) "Channel 1 soft-start", 21 TRK2 (in) "Channel 2 track input", 22 SS2 (in) "Channel 2 soft-start", 23 EN2 (in) "Channel 2 enable input. Used to set the emulated current slope for channel 2", 24 PGOOD2 (in) "Power good signal for channel 2 under-voltage and over-voltage", 25 COMP2 (out) "Error amplifier output for channel 2", 26 FB2 (in) "Error amplifier input for channel 2", 27 EA2_GND (power) "Error amplifier ground sense for channel 2", 28 CLKOUT (out) "Output clockCLKOUT is shifted 90 degrees from SYNC input", 29 SGND (power) "Local signal ground", 30 VCB2 (power) "Boost voltage for channel 2 high-side driver", 31 HG2 (out) "Channel 2 high-side gate drive for external MOSFET", 32 ILIM2 (in) "Current limit setting input for channel 2", 33 DAP (power) "Exposed die attach pad. Connect the DAP directly to SGND"

## LM3000SQ/NOPB
designator U?
Dual Synchronous Emulated Current-Mode Controller, 32 pin LLP, Pb-Free; PartNumber: LM3000SQ/NOPB; Manufacturer: National Semiconductor; PackageTopMarking: NS*UZXYTT*3000; PowerWise: Y; CompType: Switcher; DatasheetVersion: Jul-2009; PackageVersion: revB, Oct-2009; PackageReference: SQA32A; PackageDescription: LLP, Quad, 5 x 5 x 0.8mm, 32 Lead, 0.5mm Pitch, No Pullback 3.1 x 3.1 Exposed Pad; RoHS: Y; PinCount: 32; High-Reliability: Y; ComponentLink1Description: Manufacturer URL; ComponentLink1URL: http://www.national.com/; ComponentLink2Description: LM3000 Datasheet; ComponentLink2URL: http://www.national.com/ds/LM/LM3000.pdf; ComponentLink3Description: LM3000 Web Page; ComponentLink3URL: http://www.national.com/pf/LM/LM3000.html; ComponentLink4Description: SQA32A Package Page; ComponentLink4URL: http://www.national.com/packaging/folders/sqa32a.html
footprint SQA32A (QFN, 32-Leads, Body 5x5mm, Pitch 0.5mm, Thermal Pad 3.2x3.2mm, NSC Recommended)
pins: 1 VSW2 (in) "Switch node sense for channel 2", 2 PGND2 (power) "Power ground for channel 2 low-side drivers", 3 LG2 (out) "Channel 2 low-side gate drive for external MOSFET", 4 VIN (power) "Chip supply voltage, input to the VDD and VDR regulators(3.3V to 18.5V)", 5 VDR (power) "Supply for low-side gate drivers", 6 LG1 (out) "Channel 1 low-side gate drive for external MOSFET", 7 PGND1 (power) "Power ground for channel 1 low-side drivers", 8 VSW1 (in) "Switch node sense for channel 1", 9 ILIM1 (in) "Current limit setting input for channel 1", 10 HG1 (out) "Channel 1 high-side gate drive for external MOSFET", 11 VCB1 (power) "Boost voltage for channel 1 high-side driver", 12 VDD (power) "Supply for control circuitry", 13 EA1_GND (power) "Error amplifier ground sense for channel 1", 14 FB1 (in) "Error amplifier input for channel 1", 15 COMP1 (out) "Error amplifier output for channel 1", 16 PGOOD1 (in) "Power good signal for channel 1 under-voltage and over-voltage", 17 FREQ/SYNC (in) "Frequency set / synchronization input for internal PLL", 18 EN1 (in) "Channel 1 enable input. Used to set the emulated current slope for channel 1", 19 TRK1 (in) "Channel 1 track input", 20 SS1 (in) "Channel 1 soft-start", 21 TRK2 (in) "Channel 2 track input", 22 SS2 (in) "Channel 2 soft-start", 23 EN2 (in) "Channel 2 enable input. Used to set the emulated current slope for channel 2", 24 PGOOD2 (in) "Power good signal for channel 2 under-voltage and over-voltage", 25 COMP2 (out) "Error amplifier output for channel 2", 26 FB2 (in) "Error amplifier input for channel 2", 27 EA2_GND (power) "Error amplifier ground sense for channel 2", 28 CLKOUT (out) "Output clockCLKOUT is shifted 90 degrees from SYNC input", 29 SGND (power) "Local signal ground", 30 VCB2 (power) "Boost voltage for channel 2 high-side driver", 31 HG2 (out) "Channel 2 high-side gate drive for external MOSFET", 32 ILIM2 (in) "Current limit setting input for channel 2", 33 DAP (power) "Exposed die attach pad. Connect the DAP directly to SGND"

## LM3000SQX/NOPB
designator U?
Dual Synchronous Emulated Current-Mode Controller, 32 pin LLP, Pb-Free; PartNumber: LM3000SQX/NOPB; Manufacturer: National Semiconductor; PackageTopMarking: NS*UZXYTT*3000; PowerWise: Y; CompType: Switcher; DatasheetVersion: Jul-2009; PackageVersion: revB, Oct-2009; PackageReference: SQA32A; PackageDescription: LLP, Quad, 5 x 5 x 0.8mm, 32 Lead, 0.5mm Pitch, No Pullback 3.1 x 3.1 Exposed Pad; RoHS: Y; PinCount: 32; High-Reliability: Y; ComponentLink1Description: Manufacturer URL; ComponentLink1URL: http://www.national.com/; ComponentLink2Description: LM3000 Datasheet; ComponentLink2URL: http://www.national.com/ds/LM/LM3000.pdf; ComponentLink3Description: LM3000 Web Page; ComponentLink3URL: http://www.national.com/pf/LM/LM3000.html; ComponentLink4Description: SQA32A Package Page; ComponentLink4URL: http://www.national.com/packaging/folders/sqa32a.html
footprint SQA32A (QFN, 32-Leads, Body 5x5mm, Pitch 0.5mm, Thermal Pad 3.2x3.2mm, NSC Recommended)
pins: 1 VSW2 (in) "Switch node sense for channel 2", 2 PGND2 (power) "Power ground for channel 2 low-side drivers", 3 LG2 (out) "Channel 2 low-side gate drive for external MOSFET", 4 VIN (power) "Chip supply voltage, input to the VDD and VDR regulators(3.3V to 18.5V)", 5 VDR (power) "Supply for low-side gate drivers", 6 LG1 (out) "Channel 1 low-side gate drive for external MOSFET", 7 PGND1 (power) "Power ground for channel 1 low-side drivers", 8 VSW1 (in) "Switch node sense for channel 1", 9 ILIM1 (in) "Current limit setting input for channel 1", 10 HG1 (out) "Channel 1 high-side gate drive for external MOSFET", 11 VCB1 (power) "Boost voltage for channel 1 high-side driver", 12 VDD (power) "Supply for control circuitry", 13 EA1_GND (power) "Error amplifier ground sense for channel 1", 14 FB1 (in) "Error amplifier input for channel 1", 15 COMP1 (out) "Error amplifier output for channel 1", 16 PGOOD1 (in) "Power good signal for channel 1 under-voltage and over-voltage", 17 FREQ/SYNC (in) "Frequency set / synchronization input for internal PLL", 18 EN1 (in) "Channel 1 enable input. Used to set the emulated current slope for channel 1", 19 TRK1 (in) "Channel 1 track input", 20 SS1 (in) "Channel 1 soft-start", 21 TRK2 (in) "Channel 2 track input", 22 SS2 (in) "Channel 2 soft-start", 23 EN2 (in) "Channel 2 enable input. Used to set the emulated current slope for channel 2", 24 PGOOD2 (in) "Power good signal for channel 2 under-voltage and over-voltage", 25 COMP2 (out) "Error amplifier output for channel 2", 26 FB2 (in) "Error amplifier input for channel 2", 27 EA2_GND (power) "Error amplifier ground sense for channel 2", 28 CLKOUT (out) "Output clockCLKOUT is shifted 90 degrees from SYNC input", 29 SGND (power) "Local signal ground", 30 VCB2 (power) "Boost voltage for channel 2 high-side driver", 31 HG2 (out) "Channel 2 high-side gate drive for external MOSFET", 32 ILIM2 (in) "Current limit setting input for channel 2", 33 DAP (power) "Exposed die attach pad. Connect the DAP directly to SGND"

## LM3100MH
designator U?
Synchronous 1MHz 1.5A Step-Down Voltage Regulator, 20-pin TSSOP-EP; PartNumber: LM3100MH; Manufacturer: National Semiconductor; PackageTopMarking: NSUZXYTT*LM3100*MH; PowerWise: Y; CompType: Switcher; DatasheetVersion: Dec-2009; PackageVersion: revC, Jul-2006; PackageReference: MXA20A; PackageDescription: Molded TSSOP, Jedec, 6.5 x 4.4 x 0.9mm Body, 20 Lead, 0.65mm Pitch, Exposed Pad; RoHS: N; PinCount: 20; High-Reliability: Y; Code_JEDEC: MO-153-ACT; ComponentLink1Description: Manufacturer URL; ComponentLink1URL: http://www.national.com/; ComponentLink2Description: LM3100 Datasheet; ComponentLink2URL: http://www.national.com/ds/LM/LM3100.pdf; ComponentLink3Description: LM3100 Web Page; ComponentLink3URL: http://www.national.com/pf/LM/LM3100.html; ComponentLink4Description: MXA20A Package Page; ComponentLink4URL: http://www.national.com/packaging/folders/mxa20a.html
footprint MXA20A_N (TSOP, 20-Leads, Body 6.5x4.4mm, Pitch 0.65mm, Thermal Pad, IPC Medium Density)
footprint MXA20A_L (TSOP, 20-Leads, Body 6.5x4.4mm, Pitch 0.65mm, Thermal Pad, IPC High Density)
footprint MXA20A_M (TSOP, 20-Leads, Body 6.5x4.4mm, Pitch 0.65mm, Thermal Pad, IPC Low Density)
pins: 1 NC, 2 SW (power), 3 SW (power), 4 VIN (power), 5 VIN (power), 6 BST, 7 AGND (power), 8 SS (in), 9 NC, 10 NC, 11 TST (in), 12 NC, 13 FB (in), 14 EN (in), 15 RON (in), 16 VCC (power), 17 PGND (power), 18 PGND (power), 19 NC, 20 NC, 21 DAP (power)

## LM3100MH/NOPB
designator U?
SIMPLE SWITCHER® Synchronous 1MHz 1.5A Step-Down Voltage Regulator, 20-pin TSSOP-EP, Pb-Free; PartNumber: LM3100MH/NOPB; Manufacturer: National Semiconductor; PackageTopMarking: NSUZXYTT*LM3100*MH; PowerWise: Y; DatasheetVersion: Dec-2009; PackageVersion: revC, Jul-2006; PackageReference: MXA20A; PackageDescription: Molded TSSOP, Jedec, 6.5 x 4.4 x 0.9mm Body, 20 Lead, 0.65mm Pitch, Exposed Pad; RoHS: Y; PinCount: 20; CompType: Switcher; High-Reliability: Y; Code_JEDEC: MO-153-ACT; ComponentLink1Description: Manufacturer URL; ComponentLink1URL: http://www.national.com/; ComponentLink2Description: LM3100 Datasheet; ComponentLink2URL: http://www.national.com/ds/LM/LM3100.pdf; ComponentLink3Description: LM3100 Web Page; ComponentLink3URL: http://www.national.com/pf/LM/LM3100.html; ComponentLink4Description: MXA20A Package Page; ComponentLink4URL: http://www.national.com/packaging/folders/mxa20a.html
footprint MXA20A_N (TSOP, 20-Leads, Body 6.5x4.4mm, Pitch 0.65mm, Thermal Pad, IPC Medium Density)
footprint MXA20A_L (TSOP, 20-Leads, Body 6.5x4.4mm, Pitch 0.65mm, Thermal Pad, IPC High Density)
footprint MXA20A_M (TSOP, 20-Leads, Body 6.5x4.4mm, Pitch 0.65mm, Thermal Pad, IPC Low Density)
pins: 1 NC, 2 SW (power), 3 SW (power), 4 VIN (power), 5 VIN (power), 6 BST, 7 AGND (power), 8 SS (in), 9 NC, 10 NC, 11 TST (in), 12 NC, 13 FB (in), 14 EN (in), 15 RON (in), 16 VCC (power), 17 PGND (power), 18 PGND (power), 19 NC, 20 NC, 21 DAP (power)

## LM3100MHX
designator U?
SIMPLE SWITCHER® Synchronous 1MHz 1.5A Step-Down Voltage Regulator, 20-pin TSSOP-EP; PartNumber: LM3100MHX; Manufacturer: National Semiconductor; PackageTopMarking: NSUZXYTT*LM3100*MH; PowerWise: Y; DatasheetVersion: Dec-2009; PackageVersion: revC, Jul-2006; PackageReference: MXA20A; PackageDescription: Molded TSSOP, Jedec, 6.5 x 4.4 x 0.9mm Body, 20 Lead, 0.65mm Pitch, Exposed Pad; RoHS: N; PinCount: 20; CompType: Switcher; High-Reliability: Y; Code_JEDEC: MO-153-ACT; ComponentLink1Description: Manufacturer URL; ComponentLink1URL: http://www.national.com/; ComponentLink2Description: LM3100 Datasheet; ComponentLink2URL: http://www.national.com/ds/LM/LM3100.pdf; ComponentLink3Description: LM3100 Web Page; ComponentLink3URL: http://www.national.com/pf/LM/LM3100.html; ComponentLink4Description: MXA20A Package Page; ComponentLink4URL: http://www.national.com/packaging/folders/mxa20a.html
footprint MXA20A_N (TSOP, 20-Leads, Body 6.5x4.4mm, Pitch 0.65mm, Thermal Pad, IPC Medium Density)
footprint MXA20A_L (TSOP, 20-Leads, Body 6.5x4.4mm, Pitch 0.65mm, Thermal Pad, IPC High Density)
footprint MXA20A_M (TSOP, 20-Leads, Body 6.5x4.4mm, Pitch 0.65mm, Thermal Pad, IPC Low Density)
pins: 1 NC, 2 SW (power), 3 SW (power), 4 VIN (power), 5 VIN (power), 6 BST, 7 AGND (power), 8 SS (in), 9 NC, 10 NC, 11 TST (in), 12 NC, 13 FB (in), 14 EN (in), 15 RON (in), 16 VCC (power), 17 PGND (power), 18 PGND (power), 19 NC, 20 NC, 21 DAP (power)

## LM3100MHX/NOPB
designator U?
SIMPLE SWITCHER® Synchronous 1MHz 1.5A Step-Down Voltage Regulator, 20-pin TSSOP-EP, Pb-Free; PartNumber: LM3100MHX/NOPB; Manufacturer: National Semiconductor; PackageTopMarking: NSUZXYTT*LM3100*MH; PowerWise: Y; DatasheetVersion: Dec-2009; PackageVersion: revC, Jul-2006; PackageReference: MXA20A; PackageDescription: Molded TSSOP, Jedec, 6.5 x 4.4 x 0.9mm Body, 20 Lead, 0.65mm Pitch, Exposed Pad; RoHS: Y; PinCount: 20; CompType: Switcher; High-Reliability: Y; Code_JEDEC: MO-153-ACT; ComponentLink1Description: Manufacturer URL; ComponentLink1URL: http://www.national.com/; ComponentLink2Description: LM3100 Datasheet; ComponentLink2URL: http://www.national.com/ds/LM/LM3100.pdf; ComponentLink3Description: LM3100 Web Page; ComponentLink3URL: http://www.national.com/pf/LM/LM3100.html; ComponentLink4Description: MXA20A Package Page; ComponentLink4URL: http://www.national.com/packaging/folders/mxa20a.html
footprint MXA20A_N (TSOP, 20-Leads, Body 6.5x4.4mm, Pitch 0.65mm, Thermal Pad, IPC Medium Density)
footprint MXA20A_L (TSOP, 20-Leads, Body 6.5x4.4mm, Pitch 0.65mm, Thermal Pad, IPC High Density)
footprint MXA20A_M (TSOP, 20-Leads, Body 6.5x4.4mm, Pitch 0.65mm, Thermal Pad, IPC Low Density)
pins: 1 NC, 2 SW (power), 3 SW (power), 4 VIN (power), 5 VIN (power), 6 BST, 7 AGND (power), 8 SS (in), 9 NC, 10 NC, 11 TST (in), 12 NC, 13 FB (in), 14 EN (in), 15 RON (in), 16 VCC (power), 17 PGND (power), 18 PGND (power), 19 NC, 20 NC, 21 DAP (power)

## LM3102MH
designator U?
Synchronous 1MHz 2.5A Step-Down Voltage Regulator, 20-pin TSSOP-EP; PartNumber: LM3102MH; Manufacturer: National Semiconductor; PackageTopMarking: NSUZXYTT*LM3102*MH; PowerWise: Y; CompType: Switcher; DatasheetVersion: Dec-2010; PackageVersion: revC, Jul-2006; PackageReference: MXA20A; PackageDescription: Molded TSSOP, Jedec, 6.5 x 4.4 x 0.9mm Body, 20 Lead, 0.65mm Pitch, Exposed Pad; RoHS: Y; PinCount: 20; High-Reliability: Y; Code_JEDEC: MO-153-ACT; ComponentLink1Description: Manufacturer URL; ComponentLink1URL: http://www.national.com/; ComponentLink2Description: LM3102 Datasheet; ComponentLink2URL: http://www.national.com/ds/LM/LM3102.pdf; ComponentLink3Description: LM3102 Web Page; ComponentLink3URL: http://www.national.com/pf/LM/LM3102.html; ComponentLink4Description: MXA20A Package Page; ComponentLink4URL: http://www.national.com/packaging/folders/mxa20a.html
footprint MXA20A_N (TSOP, 20-Leads, Body 6.5x4.4mm, Pitch 0.65mm, Thermal Pad, IPC Medium Density)
footprint MXA20A_L (TSOP, 20-Leads, Body 6.5x4.4mm, Pitch 0.65mm, Thermal Pad, IPC High Density)
footprint MXA20A_M (TSOP, 20-Leads, Body 6.5x4.4mm, Pitch 0.65mm, Thermal Pad, IPC Low Density)
pins: 1 NC, 2 SW (power), 3 SW (power), 4 VIN (power), 5 VIN (power), 6 BST, 7 AGND (power), 8 SS (in), 9 NC, 10 NC, 11 GND (power), 12 NC, 13 FB (in), 14 EN (in), 15 RON (in), 16 VCC (power), 17 PGND (power), 18 PGND (power), 19 NC, 20 NC, 21 DAP (power)

## LM3102MH/NOPB
designator U?
SIMPLE SWITCHER® Synchronous 1MHz 2.5A Step-Down Voltage Regulator, 20-pin TSSOP-EP, Pb-Free, 73 Rail; PartNumber: LM3102MH/NOPB; Manufacturer: National Semiconductor; PackageTopMarking: NSUZXYTT*LM3102*MH; PowerWise: Y; DatasheetVersion: May-2011; PackageVersion: revC, Jul-2006; PackageReference: MXA20A; PackageDescription: Molded TSSOP, Jedec, 6.5 x 4.4 x 0.9mm Body, 20 Lead, 0.65mm Pitch, Exposed Pad; RoHS: Y; PinCount: 20; CompType: Switcher; High-Reliability: Y; Code_JEDEC: MO-153-ACT; ComponentLink1Description: Manufacturer URL; ComponentLink1URL: http://www.national.com/; ComponentLink2Description: LM3102 Datasheet; ComponentLink2URL: http://www.national.com/ds/LM/LM3102.pdf; ComponentLink3Description: LM3102 Web Page; ComponentLink3URL: http://www.national.com/pf/LM/LM3102.html; ComponentLink4Description: MXA20A Package Page; ComponentLink4URL: http://www.national.com/packaging/folders/mxa20a.html
footprint MXA20A_N (TSOP, 20-Leads, Body 6.5x4.4mm, Pitch 0.65mm, Thermal Pad, IPC Medium Density)
footprint MXA20A_L (TSOP, 20-Leads, Body 6.5x4.4mm, Pitch 0.65mm, Thermal Pad, IPC High Density)
footprint MXA20A_M (TSOP, 20-Leads, Body 6.5x4.4mm, Pitch 0.65mm, Thermal Pad, IPC Low Density)
pins: 1 NC, 2 SW (power), 3 SW (power), 4 VIN (power), 5 VIN (power), 6 BST, 7 AGND (power), 8 SS (in), 9 NC, 10 NC, 11 GND (power), 12 NC, 13 FB (in), 14 EN (in), 15 RON (in), 16 VCC (power), 17 PGND (power), 18 PGND (power), 19 NC, 20 NC, 21 DAP (power)